# EAGLE library part 2X3-W (library Pinhead)
Ph2x3-W
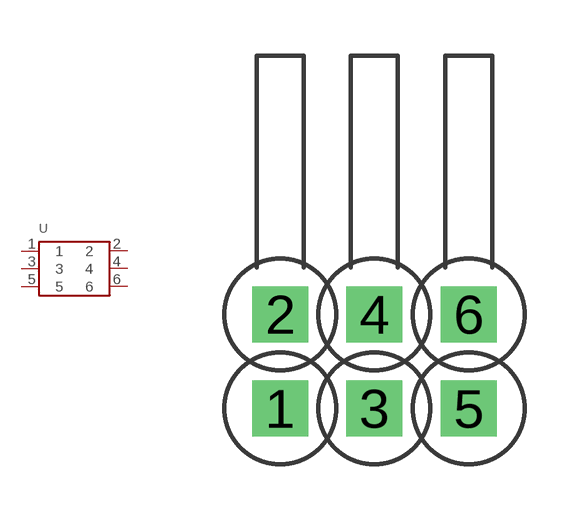
[diagram p7: symbol with the pads of 2X3-W; footprint 2X3-W]

Designator prefix -

## 2X3-W  [2X3-W]
1  1
2  2
3  3
4  4
5  5
6  6

## Footprint 2X3-W (pad centres in mm)
Ph2x3-W
drill 1 square: 1 -2.54,-1.27; 2 -2.54,1.27; 3 0,-1.27; 4 0,1.27; 5 2.54,-1.27; 6 2.54,1.27